# Altium footprint library crystal_my.PCBLIB: 68 footprints (part 5 of 5)
Each footprint in its own frame and in the unit in brackets; x right, y up, seen from the top. Pads: shape width x height; smd on the part's side, far side on the other; paste and mask are expansions set on the pad; w line width, h text height; cw(c..) or ccw(c..) is an arc to the next point about the centre after c.
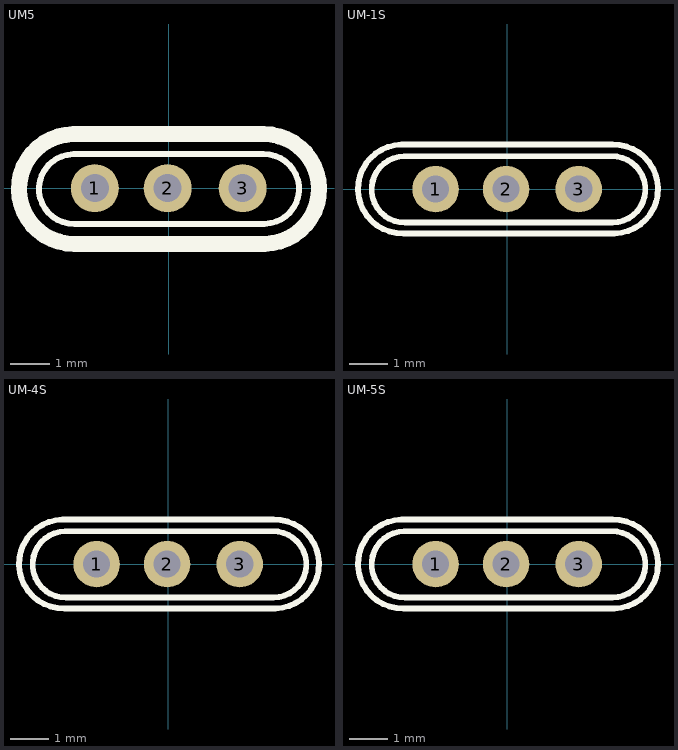
[diagram p4: the footprints below, top view; thin cyan lines are the x and y axes]

## UM5 [mil]
pads (3):
  round 48 hole 28: 1(-73.82,0) 2(-1.06,0) 3(74,0)
Top Overlay:
  lines w6: -95.31,34 95,34 cw(c95.5,-0.78) 96,-35.55 -94.33,-35.55 cw(c-94.82,-0.78) -95.31,34
  lines w16: -95.31,54 95,54 cw(c95.5,-0.78) 96,-55.55 -94.33,-55.55 cw(c-94.82,-0.78) -95.31,54

## UM-1S [mil]
pads (3):
  round 48 hole 28: 1(-73.82,0) 2(-1.06,0) 3(74,0)
Top Overlay:
  lines w6: -109.09,46 109,46 cw(c110,0.15) 111,-45.71 -107.13,-45.71 cw(c-108.11,0.15) -109.09,46 ; -106.14,34 108,34 cw(c108.5,-0.28) 109,-34.57 -105.16,-34.57 cw(c-105.65,-0.28) -106.14,34

## UM-4S [mil]
pads (3):
  round 48 hole 28: 1(-73.82,0) 2(-1.06,0) 3(74,0)
Top Overlay:
  lines w6: -109.09,46 109,46 cw(c110,0.15) 111,-45.71 -107.13,-45.71 cw(c-108.11,0.15) -109.09,46 ; -106.14,34 108,34 cw(c108.5,-0.28) 109,-34.57 -105.16,-34.57 cw(c-105.65,-0.28) -106.14,34

## UM-5S [mil]
pads (3):
  round 48 hole 28: 1(-73.82,0) 2(-1.06,0) 3(74,0)
Top Overlay:
  lines w6: -109.09,46 109,46 cw(c110,0.15) 111,-45.71 -107.13,-45.71 cw(c-108.11,0.15) -109.09,46 ; -106.14,34 108,34 cw(c108.5,-0.28) 109,-34.57 -105.16,-34.57 cw(c-105.65,-0.28) -106.14,34